# Altium footprint library CT_D_7.3X4.3X2.8.PcbLib: 1 footprints
Each footprint in its own frame and in the unit in brackets; x right, y up, seen from the top. Pads: shape width x height; smd on the part's side, far side on the other; paste and mask are expansions set on the pad; w line width, h text height; cw(c..) or ccw(c..) is an arc to the next point about the centre after c.
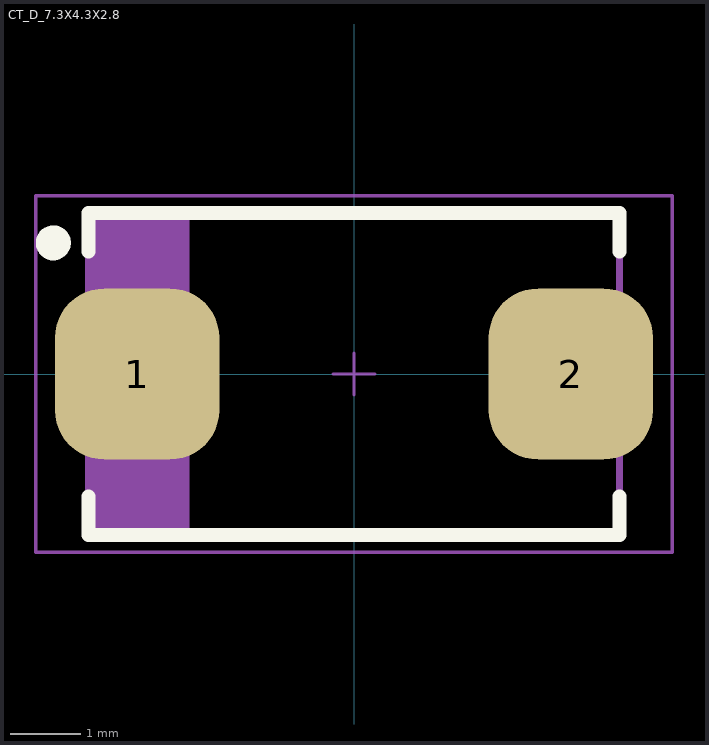
[diagram p0: the footprint, top view; thin cyan lines are the x and y axes]

## CT_D_7.3X4.3X2.8 [mm] "Capacitor, Polarized, Molded  Body 7.3x4.3mm, IPC Medium Density"
height 3.1
pads (2):
  rrect60% 2.35x2.45 smd mask+0.05: 1(-3.1,0) 2(3.1,0)
Top Overlay:
  circle w0.25: c-4.3,1.875 r0.125
  lines w0.2: -3.8,-1.75 -3.8,-2.3 3.8,-2.3 3.8,-1.75 ; -3.8,1.75 -3.8,2.3 3.8,2.3 3.8,1.75
Top Assembly:
  lines w0.1: -3.75,-2.3 -3.75,2.3 ; -3.675,-2.3 -3.675,2.3 ; -3.6,-2.3 -3.6,2.3 ; -3.525,-2.3 -3.525,2.3 ; -3.45,-2.3 -3.45,2.3 ; -3.375,-2.3 -3.375,2.3 ; -3.3,-2.3 -3.3,2.3 ; -3.225,-2.3 -3.225,2.3 ; -3.15,-2.3 -3.15,2.3 ; -3.075,-2.3 -3.075,2.3 ; -3,-2.3 -3,2.3 ; -2.925,-2.3 -2.925,2.3 ; -2.85,-2.3 -2.85,2.3 ; -2.775,-2.3 -2.775,2.3 ; -2.7,-2.3 -2.7,2.3 ; -2.625,-2.3 -2.625,2.3 ; -2.55,-2.3 -2.55,2.3 ; -2.475,-2.3 -2.475,2.3 ; -2.4,-2.3 -2.4,2.3 ; -3.8,-2.3 3.8,-2.3 3.8,2.3 -3.8,2.3 -3.8,-2.3
Top Courtyard:
  lines w0.05: -0.3,0 0.3,0 ; 0,-0.3 0,0.3 ; -4.55,-2.55 4.55,-2.55 4.55,2.55 -4.55,2.55 -4.55,-2.55
3D body "CAPMP7343X310N.stp": height 3.1, standoff 0, extent -3.8,-2.3 3.8,2.3